# EAGLE library part HDMI_MOLEX_2086581051 (library Connectors)
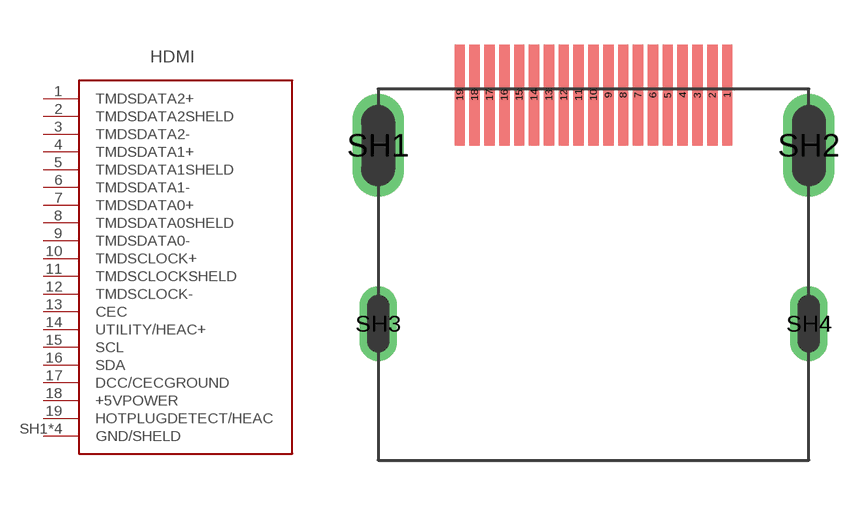
[diagram p11: symbol with the pads of HDMI_MOLEX_2086581051; footprint HDMI_MOLEX_2086581051]

Designator prefix -

## HDMI_MOLEX_2086581051 (MFG: MOLEX; PN: 2086581051)  [HDMI_MOLEX_2086581051]
1  TMDSDATA2+
2  TMDSDATA2SHELD
3  TMDSDATA2-
4  TMDSDATA1+
5  TMDSDATA1SHELD
6  TMDSDATA1-
7  TMDSDATA0+
8  TMDSDATA0SHELD
9  TMDSDATA0-
10  TMDSCLOCK+
11  TMDSCLOCKSHELD
12  TMDSCLOCK-
13  CEC
14  UTILITY/HEAC+
15  SCL
16  SDA
17  DCC/CECGROUND
18  +5VPOWER
19  HOTPLUGDETECT/HEAC
SH1  GND/SHELD
SH2  GND/SHELD
SH3  GND/SHELD
SH4  GND/SHELD

## Footprint HDMI_MOLEX_2086581051 (pad centres in mm)
smd 0.35 x 3.4: 1 4.5,2.4; 2 4,2.4; 3 3.5,2.4; 4 3,2.4; 5 2.5,2.4; 6 2,2.4; 7 1.5,2.4; 8 1,2.4; 9 0.5,2.4; 10 0,2.4; 11 -0.5,2.4; 12 -1,2.4; 13 -1.5,2.4; 14 -2,2.4; 15 -2.5,2.4; 16 -3,2.4; 17 -3.5,2.4; 18 -4,2.4; 19 -4.5,2.4
drill 1.15 long: SH1 -7.25,0.7; SH2 7.25,0.7
drill 0.75 long: SH3 -7.25,-5.3; SH4 7.25,-5.3